# EAGLE library part CD4071BE (library SamacSys_Parts)
CMOS Quad 2-Input OR Gate Source: Datasheet <http://www.ti.com/lit/ds/symlink/cd4071b.pdf>
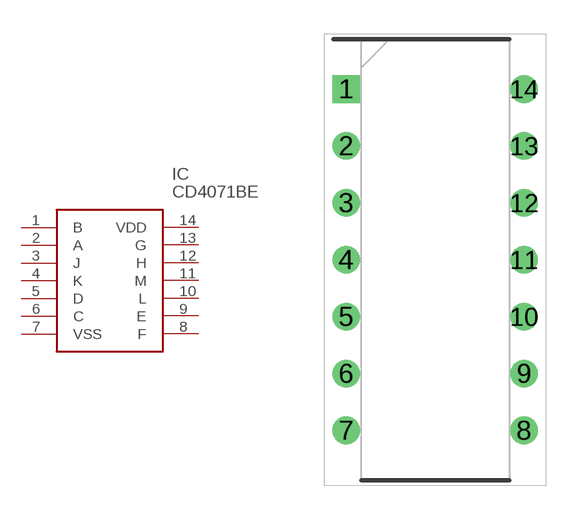
[diagram p3: symbol with the pads of DIP794W53P254L1930H508Q14N; footprint DIP794W53P254L1930H508Q14N]

Designator prefix IC

## CD4071BE (Description: CMOS Quad 2-Input OR Gate; Height: 5.08mm; Manufacturer_Name: Texas Instruments; Manufacturer_Part_Number: CD4071BE; Mouser_Part_Number: 595-CD4071BE)  [DIP794W53P254L1930H508Q14N]
1  B
2  A
3  J
4  K
5  D
6  C
7  VSS  pwr
8  F
9  E
10  L
11  M
12  H
13  G
14  VDD  pwr

## Footprint DIP794W53P254L1930H508Q14N (pad centres in mm)
N (R-PDIP-T14)
drill 0.73 pad 1.13 square: 1 -3.97,7.62
drill 0.73 pad 1.13: 2 -3.97,5.08; 3 -3.97,2.54; 4 -3.97,0; 5 -3.97,-2.54; 6 -3.97,-5.08; 7 -3.97,-7.62; 8 3.97,-7.62; 9 3.97,-5.08; 10 3.97,-2.54; 11 3.97,0; 12 3.97,2.54; 13 3.97,5.08; 14 3.97,7.62